# Altium footprint library MY.PcbLib: 177 footprints (part 7 of 12)
Each footprint in its own frame and in the unit in brackets; x right, y up, seen from the top. Pads: shape width x height; smd on the part's side, far side on the other; paste and mask are expansions set on the pad; w line width, h text height; cw(c..) or ccw(c..) is an arc to the next point about the centre after c.
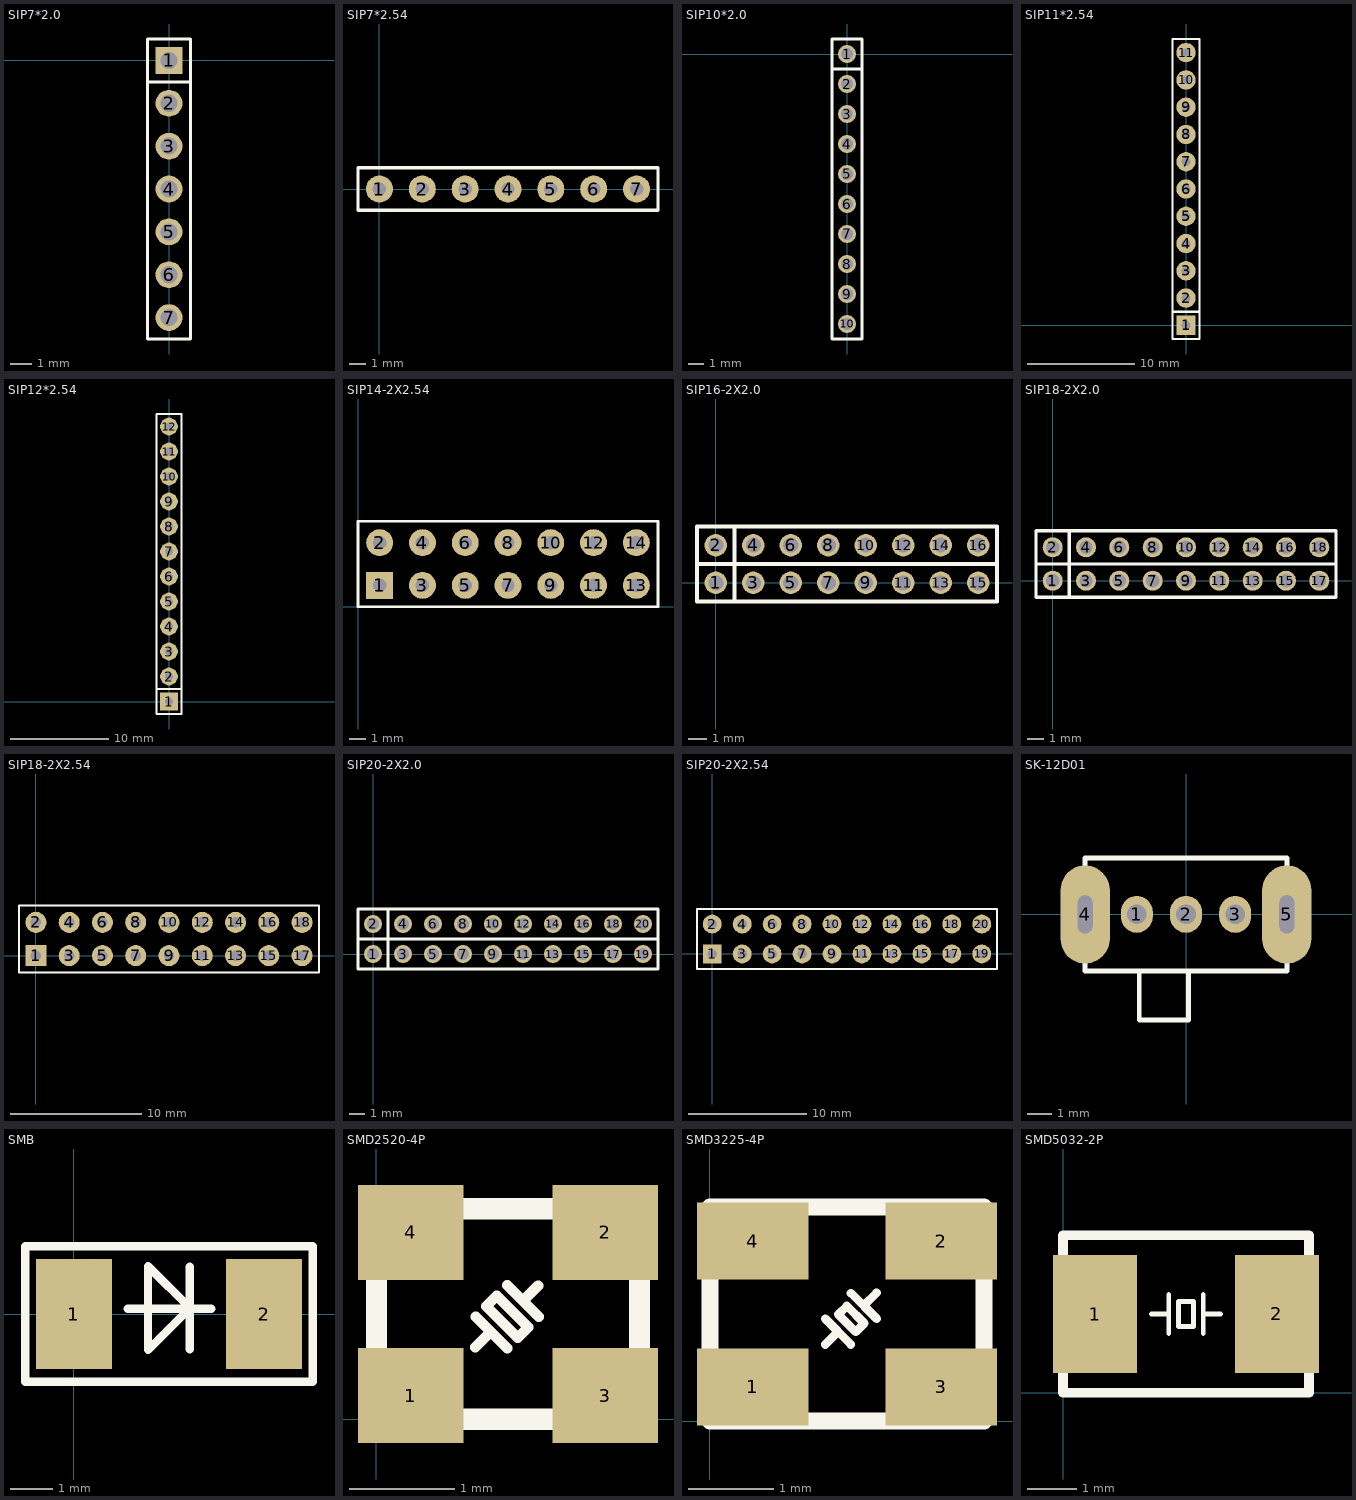
[diagram p6: the footprints below, top view; thin cyan lines are the x and y axes]

## SIP7*2.0 [mm]
pads (7):
  rect 1.25x1.25 hole 0.8: 1(0,0)
  round 1.25 hole 0.8: 2(0,-2) 3(0,-4) 4(0,-6) 5(0,-8) 6(0,-10) 7(0,-12)
Top Overlay:
  lines w0.15: -1,-1 1,-1 ; -1,-13 1,-13 1,1 -1,1 -1,-13

## SIP7*2.54 [mm]
pads (7):
  round 1.6 hole 0.8: 1(0,0) 2(2.54,0) 3(5.08,0) 4(7.62,0) 5(10.16,0) 6(12.7,0) 7(15.24,0)
Top Overlay:
  lines w0.2: -1.27,-1.27 16.51,-1.27 16.51,1.27 -1.27,1.27 -1.27,-1.27

## SIP10*2.0 [mm]
pads (10):
  round 1.2 hole 0.8: 1(0,0) 2(0,-2) 3(0,-4) 4(0,-6) 5(0,-8) 6(0,-10) 7(0,-12) 8(0,-14) 9(0,-16) 10(0,-18)
Top Overlay:
  lines w0.2: -1,-1 1,-1 ; -1,-19 1,-19 1,1 -1,1 -1,-19

## SIP11*2.54 [mm]
pads (11):
  rect 1.8x1.8 hole 0.8: 1(0,0)
  round 1.8 hole 0.8: 2(0,2.54) 3(0,5.08) 4(0,7.62) 5(0,10.16) 6(0,12.7) 7(0,15.24) 8(0,17.78) 9(0,20.32) 10(0,22.86) 11(0,25.4)
Top Overlay:
  lines w0.2: -1.27,1.27 1.27,1.27 ; -1.27,-1.27 1.27,-1.27 1.27,26.67 -1.27,26.67 -1.27,-1.27

## SIP12*2.54 [mm]
pads (12):
  rect 1.8x1.8 hole 0.8: 1(0,0)
  round 1.8 hole 0.8: 2(0,2.54) 3(0,5.08) 4(0,7.62) 5(0,10.16) 6(0,12.7) 7(0,15.24) 8(0,17.78) 9(0,20.32) 10(0,22.86) 11(0,25.4) 12(0,27.94)
Top Overlay:
  lines w0.2: -1.27,1.27 1.27,1.27 ; -1.27,-1.27 1.27,-1.27 1.27,29.21 -1.27,29.21 -1.27,-1.27

## SIP14-2X2.54 [mm]
pads (14):
  rect 1.6x1.6 hole 0.8: 1(1.29,1.27)
  round 1.6 hole 0.8: 2(1.29,3.81) 3(3.83,1.27) 4(3.83,3.81) 5(6.37,1.27) 6(6.37,3.81) 7(8.91,1.27) 8(8.91,3.81) 9(11.45,1.27) 10(11.45,3.81) 11(13.99,1.27) 12(13.99,3.81) 13(16.53,1.27) 14(16.53,3.81)
Top Overlay:
  lines w0.15: 0,0 0,5.08 17.82,5.08 17.82,0 0,0

## SIP16-2X2.0 [mm]
pads (16):
  round 1.2 hole 0.8: 1(0,0) 2(0,2) 3(2,0) 4(2,2) 5(4,0) 6(4,2) 7(6,0) 8(6,2) 9(8,0) 10(8,2) 11(10,0) 12(10,2) 13(12,0) 14(12,2) 15(14,0) 16(14,2)
Top Overlay:
  lines w0.2: 1,-1 1,1 1,3 ; -1,1 15,1 ; -1,1 -1,-1 15,-1 15,1 ; -1,1 15,1 ; -1,1 -1,3 15,3 15,1

## SIP18-2X2.0 [mm]
pads (18):
  round 1.2 hole 0.8: 1(0,0) 2(0,2) 3(2,0) 4(2,2) 5(4,0) 6(4,2) 7(6,0) 8(6,2) 9(8,0) 10(8,2) 11(10,0) 12(10,2) 13(12,0) 14(12,2) 15(14,0) 16(14,2) 17(16,0) 18(16,2)
Top Overlay:
  lines w0.2: 1,-1 1,1 1,3 ; -1,1 -1,3 17,3 17,1 ; -1,1 17,1 ; -1,1 -1,-1 17,-1 17,1 ; -1,1 17,1

## SIP18-2X2.54 [mm]
pads (18):
  rect 1.6x1.6 hole 0.8: 1(0,0)
  round 1.6 hole 0.8: 2(0,2.54) 3(2.54,0) 4(2.54,2.54) 5(5.08,0) 6(5.08,2.54) 7(7.62,0) 8(7.62,2.54) 9(10.16,0) 10(10.16,2.54) 11(12.7,0) 12(12.7,2.54) 13(15.24,0) 14(15.24,2.54) 15(17.78,0) 16(17.78,2.54) 17(20.32,0) 18(20.32,2.54)
Top Overlay:
  lines w0.15: -1.29,-1.27 -1.29,3.81 21.61,3.81 21.61,-1.27 -1.29,-1.27

## SIP20-2X2.0 [mm]
pads (20):
  round 1.2 hole 0.8: 1(0,0) 2(0,2) 3(2,0) 4(2,2) 5(4,0) 6(4,2) 7(6,0) 8(6,2) 9(8,0) 10(8,2) 11(10,0) 12(10,2) 13(12,0) 14(12,2) 15(14,0) 16(14,2) 17(16,0) 18(16,2) 19(18,0) 20(18,2)
Top Overlay:
  lines w0.2: 1,-1 1,1 1,3 ; -1,1 19,1 ; -1,1 -1,-1 19,-1 19,1 ; -1,1 19,1 ; -1,1 -1,3 19,3 19,1

## SIP20-2X2.54 [mm]
pads (20):
  rect 1.6x1.6 hole 0.8: 1(0,0)
  round 1.6 hole 0.8: 2(0,2.54) 3(2.54,0) 4(2.54,2.54) 5(5.08,0) 6(5.08,2.54) 7(7.62,0) 8(7.62,2.54) 9(10.16,0) 10(10.16,2.54) 11(12.7,0) 12(12.7,2.54) 13(15.24,0) 14(15.24,2.54) 15(17.78,0) 16(17.78,2.54) 17(20.32,0) 18(20.32,2.54) 19(22.86,0) 20(22.86,2.54)
Top Overlay:
  lines w0.15: -1.29,-1.27 24.15,-1.27 24.15,3.81 -1.29,3.81 -1.29,-1.27

## SK-12D01 [mm]
pads (5):
  oval 1.3x1.5 hole 0.8: 1(-2,0) 2(0,0) 3(2,0)
  oval 2x4 hole 0.6 slot 1.55 at 90 deg: 4(-4.1,0) 5(4.1,0)
Top Overlay:
  lines w0.2: -1.9,-2.3 -1.9,-4.3 0.1,-4.3 0.1,-2.3 ; -4.1,-2.3 -4.1,2.3 4.1,2.3 4.1,-2.3 -4.1,-2.3

## SMB [mm]
pads (2):
  rect 1.8x2.6 smd: 1(0,0) 2(4.5,0)
Top Overlay:
  lines w0.2: 1.27,0.127 3.251,0.127 ; 2.743,-0.838 2.743,1.118 ; -1.15,-1.6 5.65,-1.6 5.65,1.6 -1.15,1.6 -1.15,-1.6 ; 1.753,-0.851 2.743,0.14 1.753,1.13 1.753,-0.851

## SMD2520-4P [mm]
pads (4):
  rect 1x0.9 smd: 1(0.325,0.225) 2(2.175,1.775) 3(2.175,0.225) 4(0.325,1.775)
Top Overlay:
  lines w0.1: 0.94,0.686 1.086,0.832 ; 0.943,0.975 1.243,0.675 ; 1.243,1.275 1.543,0.975 ; 1.393,1.125 1.538,1.27 ; 1.043,1.075 1.343,0.775 1.443,0.875 1.143,1.175 1.043,1.075
  lines w0.2: 0,0 2.5,0 2.5,2 0,2 0,0

## SMD3225-4P [mm]
pads (4):
  rect 1.3x0.9 smd: 1(0.5,0.4) 2(2.7,2.1) 3(2.7,0.4) 4(0.5,2.1)
Top Overlay:
  lines w0.1: 1.346,0.894 1.496,1.044 ; 1.346,1.194 1.646,0.894 ; 1.646,1.494 1.946,1.194 ; 1.794,1.346 1.944,1.496 ; 1.499,1.245 1.702,1.041 1.802,1.141 1.599,1.345 1.499,1.245
  lines w0.2: 0,0 3.2,0 3.2,2.5 0,2.5 0,0

## SMD5032-2P [mm]
pads (2):
  rect 1.7x2.4 smd: 1(0.65,1.6) 2(4.35,1.6)
Top Overlay:
  lines w0.1: 1.8,1.6 2.15,1.6 ; 2.15,1.2 2.15,2 ; 2.85,1.2 2.85,2 ; 2.85,1.6 3.2,1.6 ; 2.35,1.35 2.35,1.85 2.65,1.85 2.65,1.35 2.35,1.35
  lines w0.2: 0,0 5,0 5,3.2 0,3.2 0,0